# EAGLE library part RFM70 (library RemoteHome)
RFM70 2.4 Ghz Funkmodul Autor: Daniel Weber Website: http://projects.web4clans.com Email: daniel.weber@web4clans.com
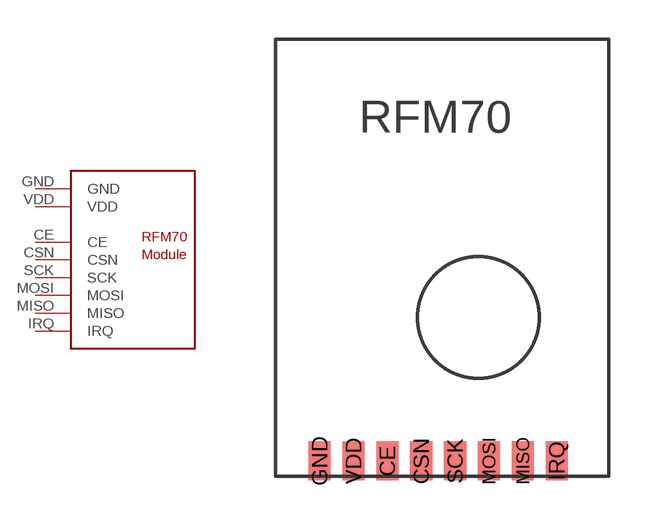
[diagram p0: symbol with the pads of RFM70; footprint RFM70]

Designator prefix -

## RFM70  [RFM70]
CE  CE
CSN  CSN
GND  GND  pwr
IRQ  IRQ
MISO  MISO
MOSI  MOSI
SCK  SCK
VDD  VDD  pwr

## Footprint RFM70 (pad centres in mm)
smd 0.85 x 1.5: CE 2.5,-14.3; CSN 3.8,-14.3; GND -0.1,-14.3; IRQ 9,-14.3; MISO 7.7,-14.3; MOSI 6.4,-14.3; SCK 5.1,-14.3; VDD 1.2,-14.3